# Altium footprint library Capacitor Non-Polar Disc.PcbLib: 220 footprints (part 2 of 14)
Each footprint in its own frame and in the unit in brackets; x right, y up, seen from the top. Pads: shape width x height; smd on the part's side, far side on the other; paste and mask are expansions set on the pad; w line width, h text height; cw(c..) or ccw(c..) is an arc to the next point about the centre after c.
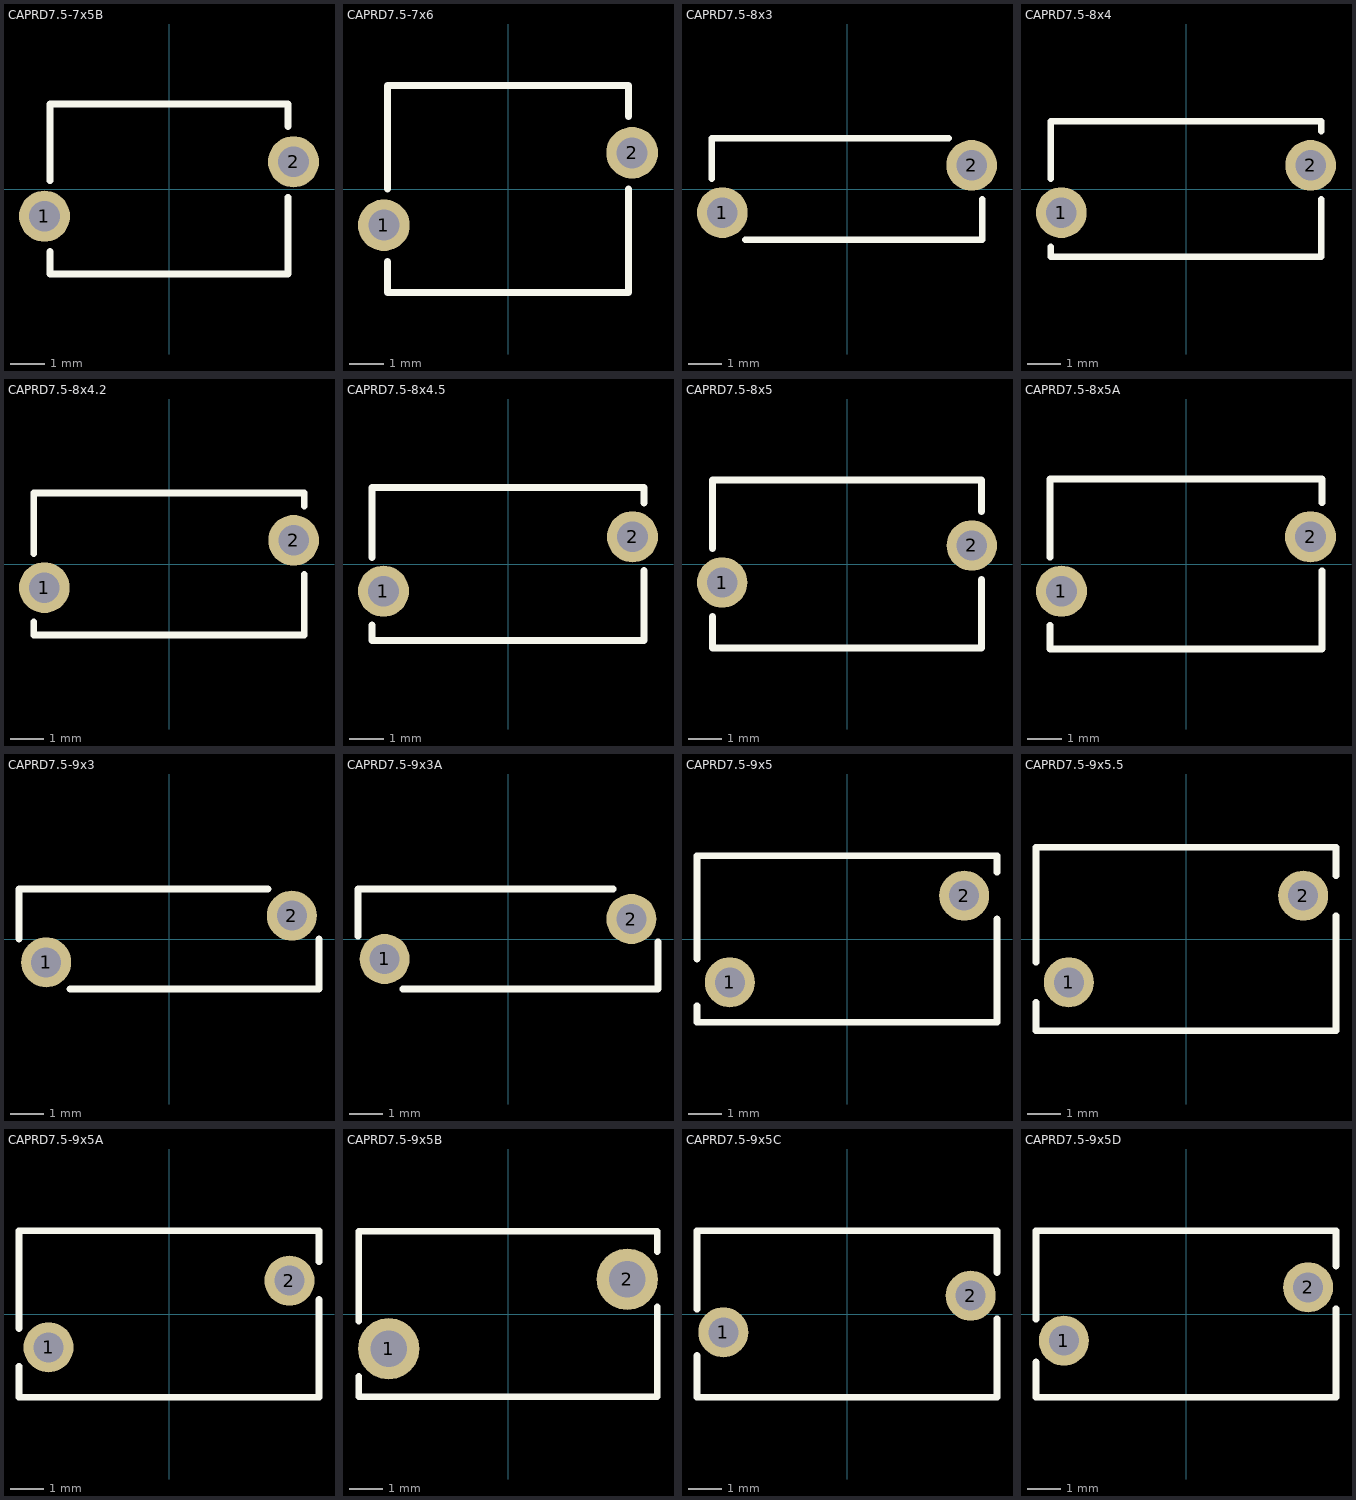
[diagram p1: the footprints below, top view; thin cyan lines are the x and y axes]

## CAPRD7.5-7x5B [mm] "Capacitor, Ceramic, Thru-Hole, Disc; Body 7 x 5 mm (LxW max) Pin Spacing 7.5 mm (typ)"
height 10
pads (2):
  round 1.5 hole 0.9: 1(-3.664,-0.8) 2(3.664,0.8)
Top Overlay:
  lines w0.2: -3.5,-1.84 -3.5,-2.5 3.5,-2.5 3.5,-0.24 ; -3.5,0.24 -3.5,2.5 3.5,2.5 3.5,1.84

## CAPRD7.5-7x6 [mm] "Capacitor, Ceramic, Thru-Hole, Disc; Body 7 x 6 mm (LxW max) Pin Spacing 7.5 mm (typ)"
height 10
pads (2):
  round 1.5 hole 0.9: 1(-3.6,-1.05) 2(3.6,1.05)
Top Overlay:
  lines w0.2: -3.5,-2.1 -3.5,-3 3.5,-3 3.5,0 ; -3.5,0 -3.5,3 3.5,3 3.5,2.1

## CAPRD7.5-8x3 [mm] "Capacitor, Ceramic, Thru-Hole, Disc; Body 8 x 3 mm (LxW max) Pin Spacing 7.5 mm (typ)"
height 11
pads (2):
  round 1.5 hole 0.9: 1(-3.684,-0.7) 2(3.684,0.7)
Top Overlay:
  lines w0.2: -4,0.304 -4,1.5 3,1.5 ; -3,-1.5 4,-1.5 4,-0.304

## CAPRD7.5-8x4 [mm] "Capacitor, Ceramic, Thru-Hole, Disc; Body 8 x 4 mm (LxW max) Pin Spacing 7.5 mm (typ)"
height 11
pads (2):
  round 1.5 hole 0.9: 1(-3.684,-0.7) 2(3.684,0.7)
Top Overlay:
  lines w0.2: -4,-1.704 -4,-2 4,-2 4,-0.304 ; -4,0.304 -4,2 4,2 4,1.704

## CAPRD7.5-8x4.2 [mm] "Capacitor, Ceramic, Thru-Hole, Disc; Body 8 x 4.2 mm (LxW max) Pin Spacing 7.5 mm (typ)"
height 11
pads (2):
  round 1.5 hole 0.9: 1(-3.684,-0.7) 2(3.684,0.7)
Top Overlay:
  lines w0.2: -4,-1.704 -4,-2.1 4,-2.1 4,-0.304 ; -4,0.304 -4,2.1 4,2.1 4,1.704

## CAPRD7.5-8x4.5 [mm] "Capacitor, Ceramic, Thru-Hole, Disc; Body 8 x 4.5 mm (LxW max) Pin Spacing 7.5 mm (typ)"
height 11
pads (2):
  round 1.5 hole 0.9: 1(-3.664,-0.8) 2(3.664,0.8)
Top Overlay:
  lines w0.2: -4,-1.795 -4,-2.25 4,-2.25 4,-0.195 ; -4,0.195 -4,2.25 4,2.25 4,1.795

## CAPRD7.5-8x5 [mm] "Capacitor, Ceramic, Thru-Hole, Disc; Body 8 x 5 mm (LxW max) Pin Spacing 7.5 mm (typ)"
height 11
pads (2):
  round 1.5 hole 0.9: 1(-3.709,-0.55) 2(3.709,0.55)
Top Overlay:
  lines w0.2: -4,-1.56 -4,-2.5 4,-2.5 4,-0.46 ; -4,0.46 -4,2.5 4,2.5 4,1.56

## CAPRD7.5-8x5A [mm] "Capacitor, Ceramic, Thru-Hole, Disc; Body 8 x 5 mm (LxW max) Pin Spacing 7.5 mm (typ)"
height 11
pads (2):
  round 1.5 hole 0.9: 1(-3.664,-0.8) 2(3.664,0.8)
Top Overlay:
  lines w0.2: -4,-1.8 -4,-2.5 4,-2.5 4,-0.2 ; -4,0.2 -4,2.5 4,2.5 4,1.8

## CAPRD7.5-9x3 [mm] "Capacitor, Ceramic, Thru-Hole, Disc; Body 9 x 3 mm (LxW max) Pin Spacing 7.5 mm (typ)"
height 12
pads (2):
  round 1.5 hole 0.9: 1(-3.684,-0.7) 2(3.684,0.7)
Top Overlay:
  lines w0.2: -4.5,0 -4.5,1.5 2.97,1.5 ; -2.97,-1.5 4.5,-1.5 4.5,0

## CAPRD7.5-9x3A [mm] "Capacitor, Ceramic, Thru-Hole, Disc; Body 9 x 3 mm (LxW max) Pin Spacing 7.5 mm (typ)"
height 12
pads (2):
  round 1.5 hole 0.9: 1(-3.702,-0.6) 2(3.702,0.6)
Top Overlay:
  lines w0.2: -4.5,0.083 -4.5,1.5 3.16,1.5 ; -3.16,-1.5 4.5,-1.5 4.5,-0.083

## CAPRD7.5-9x5 [mm] "Capacitor, Ceramic, Thru-Hole, Disc; Body 9 x 5 mm (LxW max) Pin Spacing 7.5 mm (typ)"
height 12
pads (2):
  round 1.5 hole 0.9: 1(-3.517,-1.3) 2(3.517,1.3)
Top Overlay:
  lines w0.2: -4.5,-2 -4.5,-2.5 4.5,-2.5 4.5,0.6 ; -4.5,-0.6 -4.5,2.5 4.5,2.5 4.5,2

## CAPRD7.5-9x5.5 [mm] "Capacitor, Ceramic, Thru-Hole, Disc; Body 9 x 5.5 mm (LxW max) Pin Spacing 7.5 mm (typ)"
height 12
pads (2):
  round 1.5 hole 0.9: 1(-3.517,-1.3) 2(3.517,1.3)
Top Overlay:
  lines w0.2: -4.5,-1.9 -4.5,-2.75 4.5,-2.75 4.5,0.7 ; -4.5,-0.7 -4.5,2.75 4.5,2.75 4.5,1.9

## CAPRD7.5-9x5A [mm]
pads (2):
  round 1.5 hole 0.9: 1(-3.614,-1) 2(3.614,1)
Top Overlay:
  lines w0.2: -4.5,-1.565 -4.5,-2.5 4.5,-2.5 4.5,0.435 ; -4.5,-0.435 -4.5,2.5 4.5,2.5 4.5,1.565

## CAPRD7.5-9x5B [mm]
pads (2):
  round 1.85 hole 1.1: 1(-3.6,-1.05) 2(3.6,1.05)
Top Overlay:
  lines w0.2: -4.5,-2.5 4.5,-2.5 ; -4.5,-2.49 -4.5,-1.882 ; -4.5,-0.218 -4.5,2.5 4.5,2.5 4.5,1.882 ; 4.5,-2.48 4.5,0.218

## CAPRD7.5-9x5C [mm] "Capacitor, Ceramic, Thru-Hole, Disc; Body 9 x 5 mm (LxW max) Pin Spacing 7.5 mm (typ)"
height 12
pads (2):
  round 1.5 hole 0.9: 1(-3.709,-0.55) 2(3.709,0.55)
Top Overlay:
  lines w0.2: -4.5,-1.245 -4.5,-2.5 4.5,-2.5 4.5,-0.145 ; -4.5,0.145 -4.5,2.5 4.5,2.5 4.5,1.245

## CAPRD7.5-9x5D [mm] "Capacitor, Ceramic, Thru-Hole, Disc; Body 9 x 5 mm (LxW max) Pin Spacing 7.5 mm (typ)"
height 12
pads (2):
  round 1.5 hole 0.9: 1(-3.664,-0.8) 2(3.664,0.8)
Top Overlay:
  lines w0.2: -4.5,-1.44 -4.5,-2.5 4.5,-2.5 4.5,0.16 ; -4.5,-0.16 -4.5,2.5 4.5,2.5 4.5,1.44